# EAGLE library part MCP73213-MF (library MikeLib)
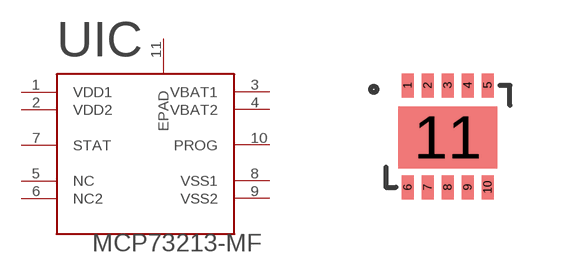
[diagram p0: symbol with the pads of 10-DFN; footprint 10-DFN]

Designator prefix -; gates IC=MCP73213 EPAD=EPAD

## MCP73213-MF  [10-DFN]
1  IC:VDD1
2  IC:VDD2
3  IC:VBAT1
4  IC:VBAT2
5  IC:NC
6  IC:NC2
7  IC:STAT
8  IC:VSS1
9  IC:VSS2
10  IC:PROG
11  EPAD:EPAD

## Footprint 10-DFN (pad centres in mm)
smd 0.3 x 0.6: 1 -4,0.3; 2 -3.5,0.3; 3 -3,0.3; 4 -2.5,0.3; 5 -2,0.3; 6 -4,-2.25; 7 -3.5,-2.25; 8 -3,-2.25; 9 -2.5,-2.25; 10 -2,-2.25
smd 2.48 x 1.55: 11 -3,-1